# Altium footprint library MH-SINGEL.PcbLib: 23 footprints (part 1 of 2)
Each footprint in its own frame and in the unit in brackets; x right, y up, seen from the top. Pads: shape width x height; smd on the part's side, far side on the other; paste and mask are expansions set on the pad; w line width, h text height; cw(c..) or ccw(c..) is an arc to the next point about the centre after c.
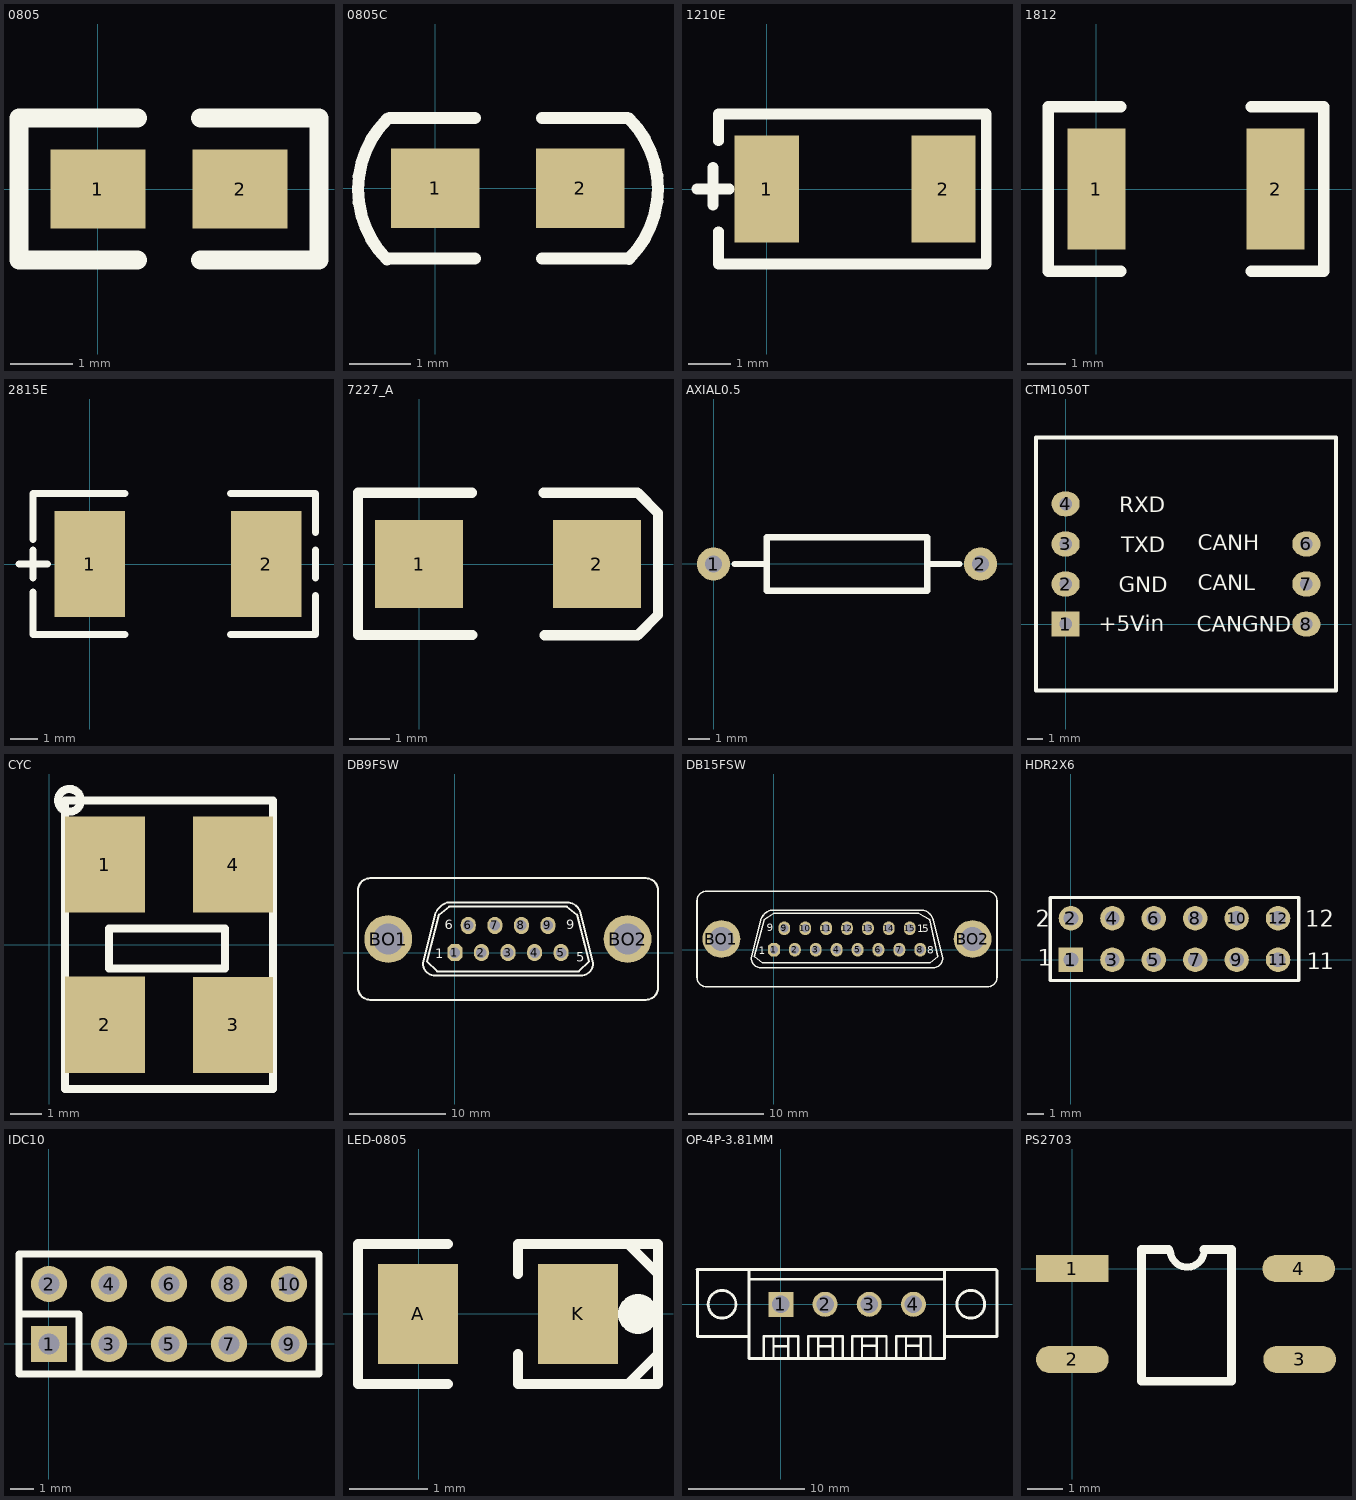
[diagram p0: the footprints below, top view; thin cyan lines are the x and y axes]

## 0805 [mil]
pads (2):
  rect 60x50 smd: 1(0.11,0) 2(90.11,0)
Top Overlay:
  lines w12: 25.11,-45 -49.89,-45 -49.89,45 25.11,45 ; 65.11,-45 140.11,-45 140.11,45 65.11,45

## 0805C [mm]
pads (2):
  rect 1.45x1.3 smd: 1(0,0) 2(2.379,0)
Top Overlay:
  lines w0.2: -0.787,-1.168 cw(c0.363,-0.018) -0.787,1.132 ; -0.75,-1.15 0.65,-1.15 ; -0.75,1.15 0.65,1.15 ; 1.75,-1.15 3.15,-1.15 ; 1.75,1.15 3.15,1.15 ; 3.175,-1.157 ccw(c2.025,-0.007) 3.175,1.143

## 1210E [mil]
pads (2):
  rect 60x100 smd: 1(0,0) 2(165,0)
Top Overlay:
  lines w10: -65,0 -35,0 ; -50,-15 -50,20 ; -45,-40 -45,-70 35,-70 130,-70 205,-70 205,70 130,70 35,70 -45,70 -45,45

## 1812 [mil]
pads (2):
  rect 60x125 smd: 1(0,0) 2(185,0)
Top Overlay:
  lines w12: 25,-85 -50,-85 -50,85 25,85 ; 160,-85 235,-85 235,85 160,85

## 2815E [mil]
pads (2):
  rect 100x150 smd: 1(0,0) 2(250,0)
Top Overlay:
  lines w10: -100,0 -60,0 ; -80,-40 -80,-100 50,-100 ; -80,-20 -80,20 ; -80,35 -80,100 50,100 ; 200,-100 320,-100 320,-45 ; 200,100 320,100 320,45 ; 320,-20 320,20

## 7227_A [mm]
pads (2):
  rect 2.2x2.2 smd: 1(0,0.002) 2(4.445,0.002)
Top Overlay:
  lines w0.254: 1.325,1.782 -1.524,1.78 -1.525,-1.768 1.335,-1.768 ; 3.105,1.782 5.461,1.78 5.969,1.272 5.969,-1.268 5.461,-1.776 3.135,-1.778

## AXIAL0.5 [mil]
pads (2):
  round 62 hole 32: 1(0,0) 2(500,0)
Top Overlay:
  lines w12: 40,0 100,0 ; 400,0 460,0 ; 100,-50 100,50 400,50 400,-50 100,-50

## CTM1050T [mil]
pads (7):
  rect 70x62 hole 32: 1(0,0)
  oval 70x62 hole 32: 2(0,100) 3(0,200) 4(0,300) 6(600,200) 7(600,100) 8(600,0)
Top Overlay:
  lines w10: -74,-164.98 -74,464.96 673.97,464.96 673.98,464.94 673.98,-164.98 -74,-164.98
  text "CANGND" at 327,-19 h39.37
  text "CANL" at 329,85 h39.37
  text "CANH" at 329,184 h39.37
  text "RXD" at 133,279 h39.37
  text "TXD" at 139,179 h39.37
  text "GND" at 132,79 h39.37
  text "+5Vin" at 82,-18 h39.37

## CYC [mil]
pads (4):
  rect 100x120 smd: 1(69.64,100) 2(69.66,-99.98) 3(229.64,-100) 4(229.64,100)
Top Overlay:
  circle w10: c25.46,180 r14.18
  lines w10: 19.64,-180 19.64,180 279.64,180 279.64,-180 19.64,-180 ; 74.66,-29.98 219.66,-29.98 219.66,20.02 74.66,20.02 74.66,-24.98 74.66,-29.98

## DB9FSW [mm]
pads (11):
  oct 1.575x1.8 hole 1.1: 1(0,0)
  oval 1.575x1.8 hole 1.1: 2(2.773,0) 3(5.546,0) 4(8.318,0) 5(11.091,0) 6(1.397,2.836) 7(4.17,2.836) 8(6.943,2.836) 9(9.715,2.836)
  round 5 hole 3.2: BO1(-6.964,1.418) BO2(18.034,1.418)
Top Overlay:
  lines w0.203: -10.118,6.498 cw(c-8.848,6.498) -8.848,7.768 19.939,7.768 cw(c19.939,6.498) 21.209,6.498 21.209,-3.662 cw(c19.939,-3.662) 19.939,-4.932 -8.848,-4.932 cw(c-8.848,-3.662) -10.118,-3.662 -10.118,6.71 ; -2.074,3.958 -3.344,-1.122 ccw(c-2.074,-1.122) -2.074,-2.392 13.166,-2.392 ccw(c13.166,-1.122) 14.436,-1.122 13.166,3.958 ; -2.006,4.141 cw(c-0.169,3.323) -0.791,5.236 ; -0.804,5.228 11.896,5.228 ; 11.893,5.235 cw(c11.684,3.746) 13.172,3.956 ; -2.921,-0.91 -1.651,3.958 -0.593,4.805 11.684,4.805 12.742,3.958 14.012,-0.91 12.954,-1.968 -1.863,-1.968 -2.921,-0.91
  text "6" at -1.058,2.434 h1
  text "1" at -2.074,-0.614 h1
  text "5" at 12.683,-0.964 h1
  text "9" at 11.642,2.434 h1

## DB15FSW [mm]
pads (17):
  oct 1.575x1.8 hole 1.1: 1(0.003,0)
  oval 1.575x1.8 hole 1.1: 2(2.776,0) 3(5.548,0) 4(8.321,0) 5(11.094,0) 6(13.867,0) 7(16.64,0) 8(19.413,0) 9(1.379,2.836) 10(4.151,2.836) 11(6.924,2.836) 12(9.697,2.836) 13(12.47,2.836) 14(15.243,2.836) 15(18.016,2.836)
  round 5 hole 3.2: BO1(-6.961,1.418) BO2(26.355,1.418)
Top Overlay:
  lines w0.203: -1.74,3.945 cw(c0.172,3.323) -0.449,5.236 ; -1.733,3.958 -3.003,-1.122 ccw(c-1.733,-1.122) -1.733,-2.392 21.127,-2.392 ccw(c21.127,-1.122) 22.397,-1.122 21.127,3.958 ; -0.463,5.228 19.857,5.228 ; 19.854,5.219 cw(c19.434,3.535) 21.118,3.955 ; -10.2,-3.662 ccw(c-8.93,-3.662) -8.93,-4.932 28.324,-4.932 ccw(c28.324,-3.662) 29.594,-3.662 29.594,6.498 ccw(c28.324,6.498) 28.324,7.768 -8.93,7.768 ccw(c-8.93,6.498) -10.2,6.498 -10.2,-3.662 ; -2.58,-0.91 -1.521,-1.757 20.704,-1.757 21.762,-0.91 20.704,3.958 19.222,4.805 -0.04,4.805 -1.31,3.958 -2.58,-0.91
  text "5" at 19.688,2.311 h1
  text "1" at 19.002,2.337 h1
  text "8" at 20.374,-0.533 h1
  text "9" at -0.971,2.434 h1
  text "1" at -1.987,-0.614 h1

## HDR2X6 [mm]
pads (12):
  rect 1.5x1.5 hole 0.9: 1(0,0)
  round 1.5 hole 0.9: 2(0,2.54) 3(2.54,0) 4(2.54,2.54) 5(5.08,0) 6(5.08,2.54) 7(7.62,0) 8(7.62,2.54) 9(10.16,0) 10(10.16,2.54) 11(12.7,0) 12(12.7,2.54)
Top Overlay:
  lines w0.2: -1.27,-1.27 13.97,-1.27 13.97,3.81 -1.27,3.81 -1.27,-1.27
  text "12" at 14.355,2.022 h1
  text "1" at 15.255,-0.578 h1
  text "1" at 14.455,-0.578 h1
  text "1" at -2.045,-0.378 h1
  text "2" at -2.145,2.022 h1

## IDC10 [mil]
pads (10):
  rect 60x60 hole 35: 1(0.45,-0.31)
  round 60 hole 35: 2(0.45,99.69) 3(100.45,-0.31) 4(100.45,99.69) 5(200.45,-0.31) 6(200.45,99.69) 7(300.45,-0.31) 8(300.45,99.69) 9(400.45,-0.31) 10(400.45,99.69)
Top Overlay:
  lines w12: -49.55,49.69 50.45,49.69 50.45,-50.31 ; -49.55,-50.31 450.45,-50.31 450.45,149.69 -49.55,149.69 -49.55,-50.31

## LED-0805 [mil]
pads (3):
  rect 40x50 smd: A(-0.37,-0.07) K(79.63,-0.07)
  round 20 on Top Overlay: ""(109.63,-0.07)
Top Overlay:
  lines w5: 14.63,-35.07 -30.37,-35.07 -30.37,34.93 14.63,34.93 ; 49.63,-20.07 49.63,-35.07 109.63,-35.07 119.63,-35.07 119.63,34.93 109.63,34.93 49.63,34.93 49.63,19.93 ; 104.63,-35.07 119.63,-20.07 ; 104.63,34.93 119.63,19.93

## OP-4P-3.81MM [mil]
pads (4):
  rect 85x85 hole 59.5: 1(0,0)
  round 85 hole 59.5: 2(150,0) 3(300,0) 4(450,0)
Top Overlay:
  circle w10: c645,0 r47.24
  circle w10: c-200,0 r47.24
  lines w8: -58.33,-184 -58.33,-109 58.33,-109 58.33,-184 ; -25,-184 -25,-109 ; -25,-142.33 25,-142.33 ; 25,-184 25,-109 ; 93,-184 93,-109 209.67,-109 209.67,-184 ; 126.33,-184 126.33,-109 ; 126.33,-142.33 176.33,-142.33 ; 176.33,-184 176.33,-109 ; 242,-183 242,-108 358.67,-108 358.67,-183 ; 275.33,-183 275.33,-108 ; 275.33,-141.33 325.33,-141.33 ; 325.33,-183 325.33,-108 ; 391.33,-183 391.33,-108 508,-108 508,-183 ; 424.67,-183 424.67,-108 ; 424.67,-141.33 474.67,-141.33 ; 474.67,-183 474.67,-108
  lines w10: -285,118.11 730.89,118.11 734,115 734,-110 556,-110 ; -284,115 -284,-110 -108.33,-110 ; -110,118.11 -108.33,116.44 -108.33,-184 555,-184 ; -108.33,85 556,85 ; 555,118.11 556,117.11 556,-183

## PS2703 [mil]
pads (4):
  rect 80x30 smd: 1(0,0)
  oval 80x30 smd: 2(0,-100) 3(250,-100) 4(249,0)
Top Overlay:
  lines w7.87: 107.7,18.89 ccw(c126.33,20.22) 145,21
  lines w9.84: 105.59,21 76,21 76,-124 175,-124 175,21 145,21